# EAGLE library part MINIWIFI (library ck_custom)
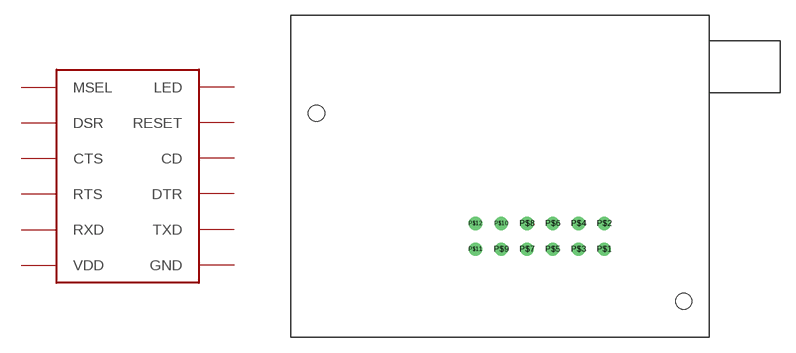
[diagram p8: symbol with the pads of MINIWIFI; footprint MINIWIFI]

Designator prefix -

## MINIWIFI  [MINIWIFI]
P$1  VDD
P$2  GND
P$3  RXD
P$4  TXD
P$5  RTS
P$6  DTR
P$7  CTS
P$8  CD
P$9  DSR
P$10  RESET
P$11  MSEL
P$12  LED

## Footprint MINIWIFI (pad centres in mm)
drill 0.8: P$1 30.912,8.687; P$2 30.912,11.227; P$3 28.372,8.687; P$4 28.372,11.227; P$5 25.832,8.687; P$6 25.832,11.227; P$7 23.292,8.687; P$8 23.292,11.227; P$9 20.752,8.687; P$10 20.752,11.227; P$11 18.212,8.687; P$12 18.212,11.227
hole 1.6 at 38.735,3.556
hole 1.6 at 2.54,22.098